# EAGLE library part PINHD-14 (library m_connector)
14 Pin Header
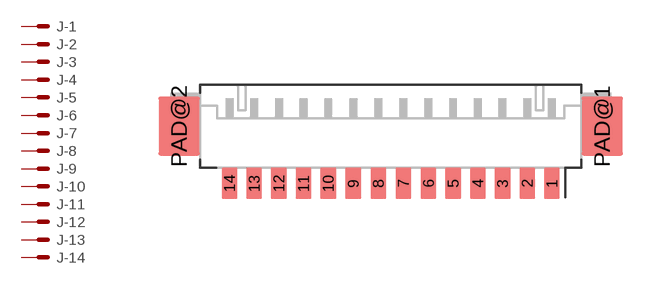
[diagram p16: symbol with the pads of MOLEX_53261-1471; footprint MOLEX_53261-1471]

Designator prefix J; gates -1=M -2=M -3=M -4=M -5=M -6=M -7=M -8=M -9=M -10=M -11=M -12=M -13=M -14=M

## PINHD-14MOLEX-PICOBLADE-SMT-RIGHT_ANGLE (MANUF: Molex; PARTNUM: 53261-1471)  [MOLEX_53261-1471]
1  -1:S  pas
2  -2:S  pas
3  -3:S  pas
4  -4:S  pas
5  -5:S  pas
6  -6:S  pas
7  -7:S  pas
8  -8:S  pas
9  -9:S  pas
10  -10:S  pas
11  -11:S  pas
12  -12:S  pas
13  -13:S  pas
14  -14:S  pas

## Footprint MOLEX_53261-1471 (pad centres in mm)
Molex 53261 Series PicoBlade, 1.25mm Pitch, Right Angle, SMT, 14 Conductor Molex 1.25mm pitch right angle SMT connector. Pre tinned phosphor bronze pins, mates with 51021 series.
smd 0.8 x 1.6: 1 8.165,-0.8; 2 6.915,-0.8; 3 5.665,-0.8; 4 4.415,-0.8; 5 3.165,-0.8; 6 1.915,-0.8; 7 0.645,-0.8; 8 -0.625,-0.8; 9 -1.895,-0.8; 10 -3.165,-0.8; 11 -4.415,-0.8; 12 -5.665,-0.8; 13 -6.915,-0.8; 14 -8.165,-0.8
smd 2.1 x 3: PAD@1 10.715,2.1; PAD@2 -10.715,2.1